# EAGLE library part LT5512 (library Lasser)
Linear LT5512 1kHz-3GHz Downconverting Mixer Broadband active double-balanced Mixer IC with internal buffer. Input IP3: 20dBm (30-900MHz) 1db Conv. Gain 10.5dBm Input 1dB Compression Point
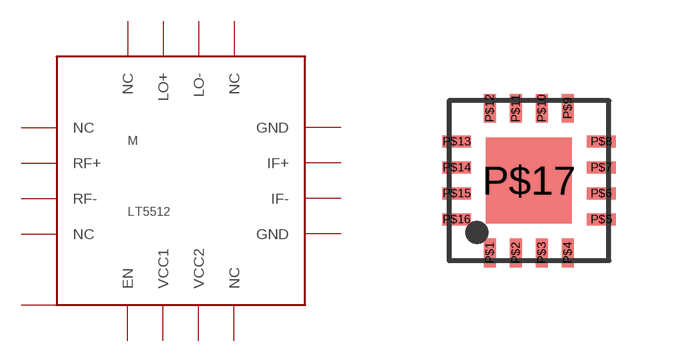
[diagram p3: symbol with the pads of QFN16; footprint QFN16]

Designator prefix M

## LT5512  [QFN16]
P$1  NC
P$2  RF+
P$3  RF-
P$4  NC
P$5  EN
P$6  VCC1
P$7  VCC2
P$8  NC
P$9  GND
P$10  IF-
P$11  IF+
P$12  GND
P$13  NC
P$14  LO-
P$15  LO+
P$16  NC
P$17

## Footprint QFN16 (pad centres in mm)
QFN-16 4x4 mm UF Package (Linear) Nach Zeichnung von Linear für den LT5512 erstellt.
smd 0.3 x 0.72: P$1 -0.975,-1.81; P$2 -0.325,-1.81; P$3 0.325,-1.81; P$4 0.975,-1.81; P$9 0.975,1.81; P$10 0.325,1.81; P$11 -0.325,1.81; P$12 -0.975,1.81
smd 0.72 x 0.3: P$5 1.81,-0.975; P$6 1.81,-0.325; P$7 1.81,0.325; P$8 1.81,0.975; P$13 -1.81,0.975; P$14 -1.81,0.325; P$15 -1.81,-0.325; P$16 -1.81,-0.975
smd 2.15 x 2.15: P$17 0,0